# Altium integrated library BU2032SM-JJ-GTR.IntLib: 1 symbol
Pins are listed as number, name and electrical type; pins without a type are passive.

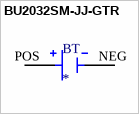
[diagram p0: symbol BU2032SM-JJ-GTR]

## BU2032SM-JJ-GTR
designator BT
BATTERY HOLDER COIN 20MM SMD; MF: MPD; MP: BU2032SM-JJ-GTR; Value: *; Package: None; Price: None; Availability: Unavailable; SnapEDA_Link: https://www.snapeda.com/parts/BU2032SM-JJ-GTR/Memory%20Protection%20Devices/view-part/4219634/?ref=snap
footprint BAT_BU2032SM-JJ-GTR
pins: NEG, POS